# Altium schematic symbol library bss123.SchLib: 1 symbol
Pins are listed as number, name and electrical type; pins without a type are passive.

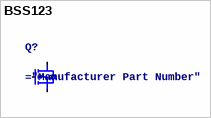
[diagram p0: symbol BSS123]

## BSS123
designator Q?
N-Channel 100 V 170mA 350mW (Ta) Surface Mount SOT-23-3
pins: 1, 2, 3